# EAGLE library part ADS1118IDGSR (library ADS1118)
Ultra-Small, Low-Power, SPI-Compatible, 16-Bit Analog-to-Digital Converter and Temperature Sensor.MSOP-10
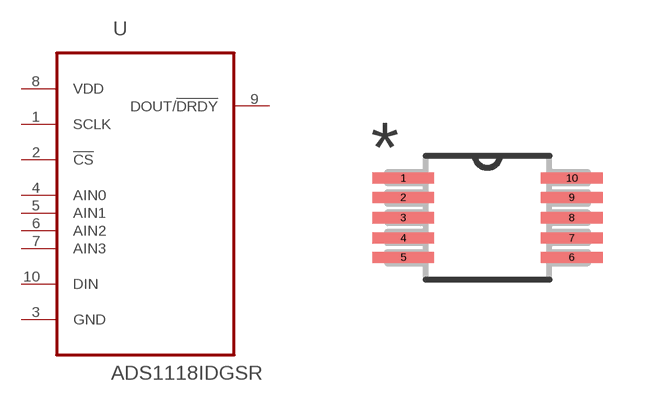
[diagram p0: symbol with the pads of SOP50P490X110-10N; footprint SOP50P490X110-10N]

Designator prefix U

## ADS1118IDGSR (MPN: ADS1118IDGSR; OC_FARNELL: 1947871; OC_NEWARK: 58T1248; PACKAGE: MSOP-10; SUPPLIER: TEXAS INSTRUMENTS)  [SOP50P490X110-10N]
1  SCLK  in
2  !CS  in
3  GND  pas
4  AIN0  in
5  AIN1  in
6  AIN2  in
7  AIN3  in
8  VDD  pwr
9  DOUT/!DRDY  out
10  DIN  in

## Footprint SOP50P490X110-10N (pad centres in mm)
smd 1.549 x 0.279: 1 -2.108,0.991; 2 -2.108,0.508; 3 -2.108,0; 4 -2.108,-0.508; 5 -2.108,-0.991; 6 2.108,-0.991; 7 2.108,-0.508; 8 2.108,0; 9 2.108,0.508; 10 2.108,0.991